# Altium schematic symbol library GOSTConnector.SchLib: 5 symbols
Pins are listed as number, name and electrical type; pins without a type are passive.

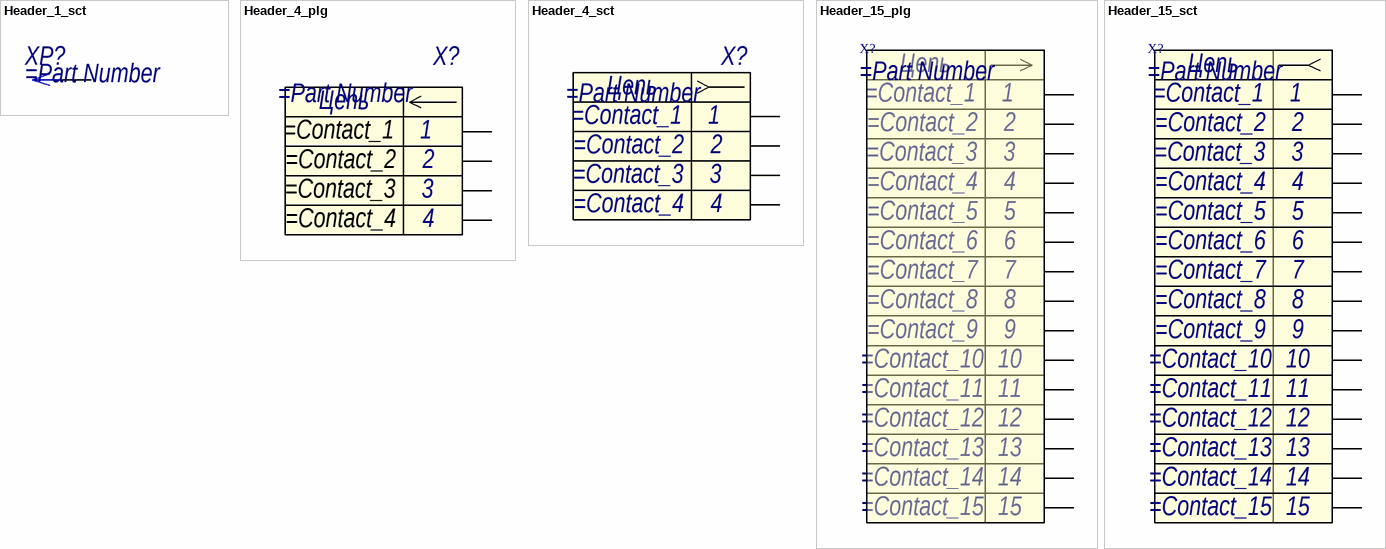
[diagram p0: symbols Header_1_sct to Header_15_sct]

## Header_1_sct
designator XP?
Штырь ГОСТ21.614-88
pins: 1

## Header_4_plg
designator X?
Разъем - 4 конт. вилка
pins: 1, 2, 3, 4
text: Цепь

## Header_4_sct
designator X?
Разъем - 4 конт. розетка
pins: 1, 2, 3, 4
text: Цепь

## Header_15_plg
designator X?
Разъем - 15 конт. вилка
pins: 1, 2, 3, 4, 5, 6, 7, 8, 9, 10, 11, 12, 13, 14, 15
text: Цепь

## Header_15_sct
designator X?
Разъем - 15 конт. розетка
pins: 1, 2, 3, 4, 5, 6, 7, 8, 9, 10, 11, 12, 13, 14, 15
text: Цепь